# Altium footprint library charger.PcbLib: 22 footprints (part 1 of 2)
Each footprint in its own frame and in the unit in brackets; x right, y up, seen from the top. Pads: shape width x height; smd on the part's side, far side on the other; paste and mask are expansions set on the pad; w line width, h text height; cw(c..) or ccw(c..) is an arc to the next point about the centre after c.
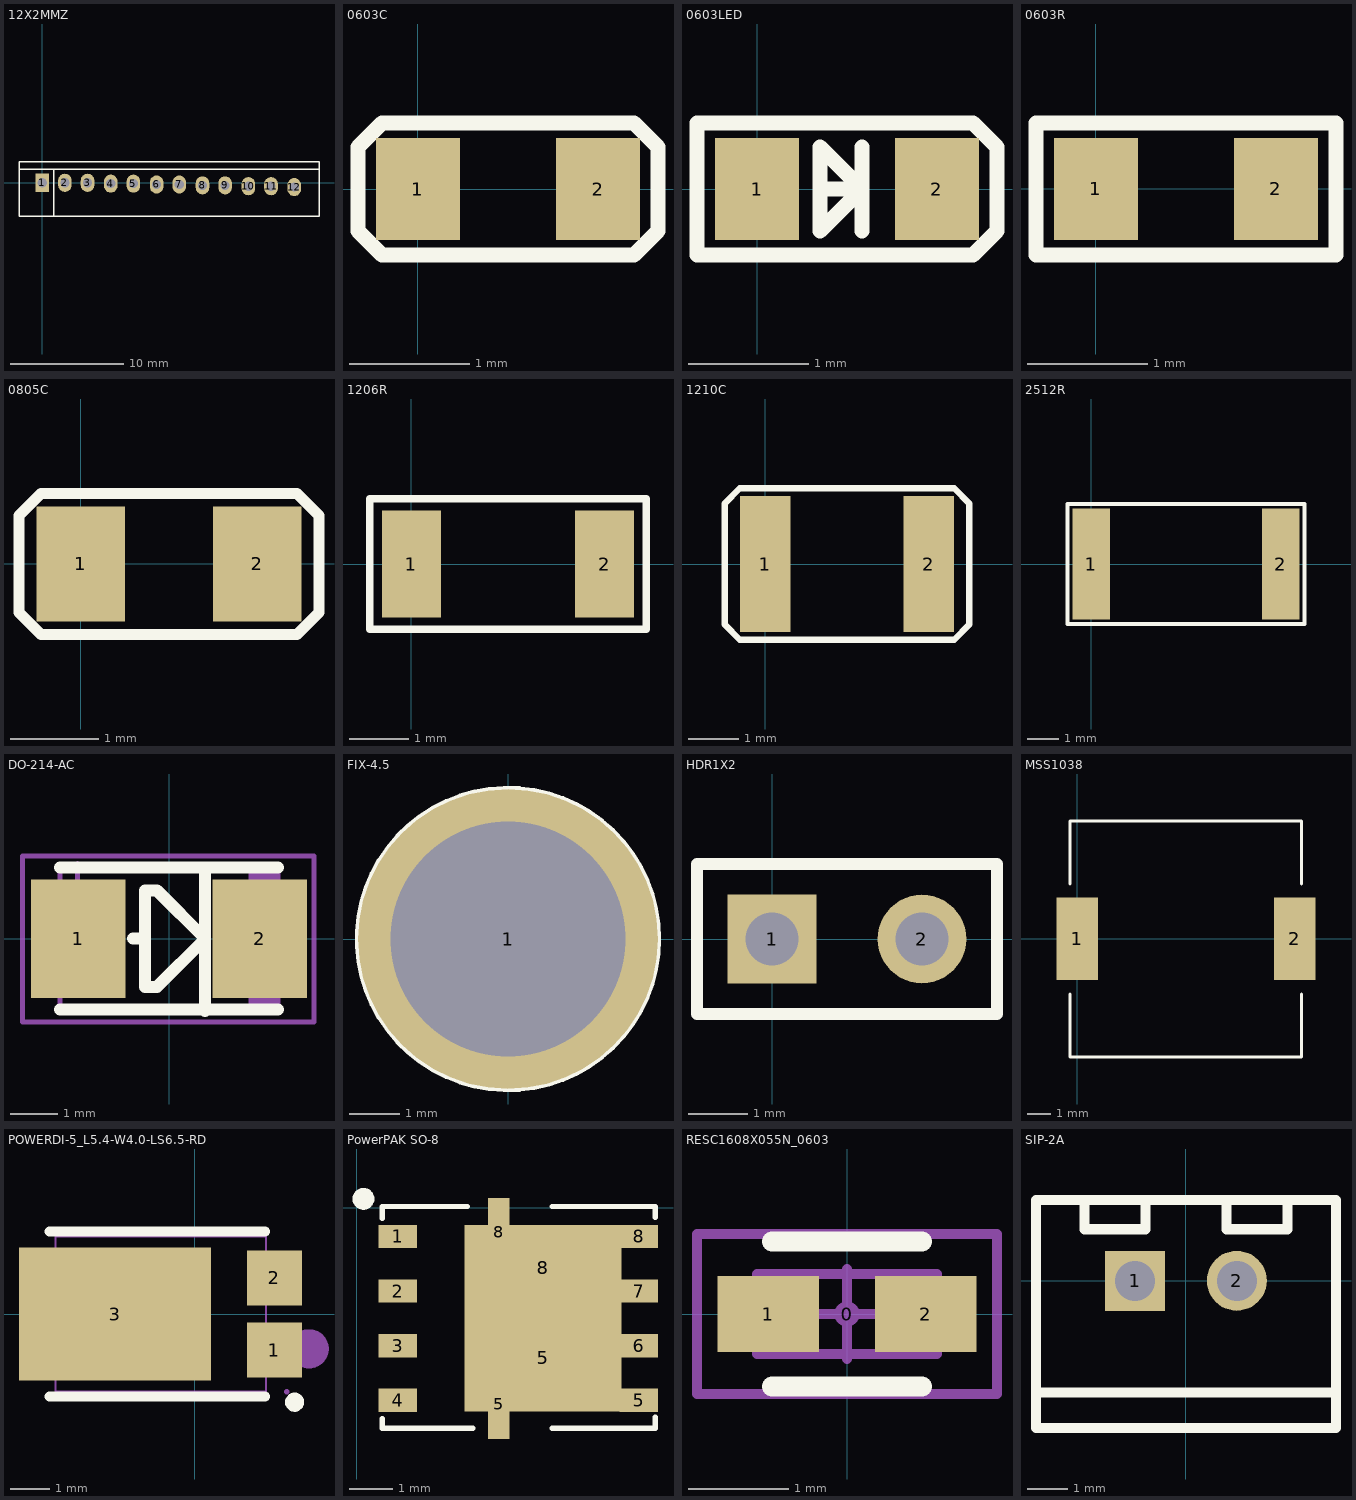
[diagram p0: the footprints below, top view; thin cyan lines are the x and y axes]

## 12X2MMZ [mm]
pads (12):
  rect 1.2x1.6 hole 0.8: 1(0,0)
  oval 1.2x1.6 hole 0.8: 2(2,0) 3(4,0) 4(6.05,-0.076) 5(8.05,-0.076) 6(10.1,-0.152) 7(12.1,-0.152) 8(14.15,-0.229) 9(16.15,-0.229) 10(18.2,-0.305) 11(20.2,-0.305) 12(22.25,-0.381)
Top Overlay:
  lines w0.127: -2.05,1.2 24.435,1.2 ; 1,-2.95 1,1.2 ; -2.05,-2.95 24.435,-2.95 24.435,1.85 -2.05,1.85 -2.05,-2.95

## 0603C [mm]
pads (2):
  rect 0.7x0.85 smd: 1(0,0) 2(1.5,0)
Top Overlay:
  lines w0.127: -0.5,-0.35 -0.5,0.35 -0.3,0.55 1.8,0.55 2,0.35 2,-0.35 1.8,-0.55 -0.3,-0.55 -0.5,-0.35

## 0603LED [mm]
pads (2):
  rect 0.7x0.85 smd: 1(0,0) 2(1.5,0)
Top Overlay:
  lines w0.127: 0.525,0 0.875,0 ; 0.875,-0.35 0.875,0.35 ; 0.875,0 0.525,0.35 0.525,-0.35 0.875,0 ; -0.5,-0.55 -0.5,0.55 1.8,0.55 2,0.35 2,-0.35 1.8,-0.55 -0.5,-0.55

## 0603R [mm]
pads (2):
  rect 0.7x0.85 smd: 1(0,0) 2(1.5,0)
Top Overlay:
  lines w0.127: -0.5,-0.55 2,-0.55 2,0.55 -0.5,0.55 -0.5,-0.55

## 0805C [mm]
pads (2):
  rect 1x1.3 smd: 1(0,0) 2(2,0)
Top Overlay:
  lines w0.127: 2.45,-0.8 2.7,-0.55 2.7,0.55 2.45,0.8 -0.45,0.8 -0.7,0.55 -0.7,-0.55 -0.45,-0.8 2.45,-0.8 ; 2.45,-0.8 2.45,-0.8

## 1206R [mm]
pads (2):
  rect 1x1.8 smd: 1(0,0) 2(3.25,0)
Top Overlay:
  lines w0.127: -0.7,-1.1 3.95,-1.1 3.95,1.1 -0.7,1.1 -0.7,-1.1

## 1210C [mm]
pads (2):
  rect 1x2.7 smd: 1(0,0) 2(3.25,0)
Top Overlay:
  lines w0.127: -0.8,-1.2 -0.5,-1.5 3.75,-1.5 4.05,-1.2 4.05,1.2 3.75,1.5 -0.5,1.5 -0.8,1.2 -0.8,-1.2

## 2512R [mm]
pads (2):
  rect 1.2x3.5 smd: 1(0,0) 2(6,0)
Top Overlay:
  lines w0.127: -0.75,-1.9 6.75,-1.9 6.75,1.9 -0.75,1.9 -0.75,-1.9

## DO-214-AC [mm]
pads (2):
  rect 2x2.5 smd: 1(-1.915,0) 2(1.915,0)
Top Overlay:
  lines w0.254: -2.3,-1.5 2.3,-1.5 ; -2.3,1.5 2.3,1.5 ; -0.762,0 -0.508,0 ; 0.762,-1.524 0.762,1.473 ; -0.508,-1.016 -0.508,1.016 -0.254,1.016 0.762,0 -0.254,-1.016 -0.508,-1.016
Mechanical 13:
  rectangle: 1.681,-1.475 2.3,1.475
  lines w0.1: -2.3,-1.475 2.3,-1.475 2.3,1.475 -2.3,1.475 -2.3,-1.475
Mechanical 15:
  lines w0.1: -2.43,1.092 -1.43,1.092 ; -1.93,0.592 -1.93,1.592 ; -3.09,-1.758 -3.09,1.742 3.06,1.742 3.06,-1.758 -3.09,-1.758
3D body "DO-214AC.STEP": height 2.4, standoff 0, extent -2.3,-1.35 2.3,1.35

## FIX-4.5 [mm]
pads (1):
  round 6 hole 4.7: 1(0,0)
Top Overlay:
  circle w0.127: c0,0 r3

## HDR1X2 [mm] "Connector; Header; 2 Position"
pads (2):
  rect 1.5x1.5 hole 0.9: 1(0,0)
  round 1.5 hole 0.9: 2(2.54,0)
Top Overlay:
  lines w0.2: -1.27,-1.27 3.81,-1.27 3.81,1.27 -1.27,1.27 -1.27,-1.27

## MSS1038 [mm]
pads (2):
  rect 1.78x3.56 smd: 1(0,0) 2(9.4,0)
Top Overlay:
  lines w0.127: -0.305,-2.373 -0.305,-5.105 9.695,-5.105 9.695,-2.373 ; -0.305,2.362 -0.305,5.095 9.695,5.095 9.695,2.362

## POWERDI-5_L5.4-W4.0-LS6.5-RD [mm]
pads (3):
  rect 1.4x1.4 smd: 1(2.032,-0.92) 2(2.032,0.92)
  rect 4.9x3.4 smd: 3(-2.032,0)
Top Overlay:
  circle w0.254: c2.55,-2.25 r0.117
  lines w0.254: -3.7,-2.1 1.8,-2.1 ; -3.7,2.1 1.8,2.1
Mechanical 6:
  circle w0.5: c2.921,-0.889 r0.25
Mechanical 15:
  region: 2.35,-0.47 2.35,-1.37 1.55,-1.37 1.55,-0.47
  region: 2.35,1.37 2.35,0.47 1.55,0.47 1.55,1.37
  region: 0.345,1.53 0.345,-1.524 -3.4,-1.524 -3.4,-0.9 -4.15,-0.9 -4.15,0.9 -3.4,0.9 -3.4,1.53
  region: 2.41,-1.983 2.41,-1.958 2.375,-1.923 2.325,-1.923 2.29,-1.958 2.29,-1.983 2.29,-2.008 2.325,-2.043 2.375,-2.043 2.41,-2.008 2.41,-1.983
  lines w0.051: -3.554,-1.983 -3.554,1.983 1.816,1.983 1.816,-1.983 -3.554,-1.983

## PowerPAK SO-8 [mm]
pads (12):
  rect 0.9x0.54 smd: 1(0.95,-0.67) 2(0.95,-1.94) 3(0.95,-3.21) 4(0.95,-4.48) 5(6.548,-4.48) 6(6.548,-3.21) 7(6.548,-1.94) 8(6.548,-0.67)
  rect 0.5x1.6 smd: 5(3.3,-4.575) 8(3.3,-0.575)
  rect 3.66x2.5 smd: 5(4.325,-3.495)
  rect 3.66x2 smd: 8(4.325,-1.401)
Top Overlay:
  circle w0.254: c0.152,0.203 r0.127
  lines w0.127: 0.584,-4.902 0.584,-5.125 2.692,-5.125 ; 0.584,-0.254 0.584,0.025 2.565,0.025 ; 4.534,-5.125 6.934,-5.125 6.934,-4.877 ; 4.534,0.025 6.934,0.025 6.934,-0.229

## RESC1608X055N_0603 [mil] "Chip Resistor, 0603"
height 21.65
pads (3):
  round 10 on Mech3: 0(0,0)
  rect 40x30 smd: 1(-30.98,0) 2(30.98,0)
Top Overlay:
  lines w7.87: -29.53,-28.54 29.53,-28.54 ; -29.53,28.54 29.53,28.54
Mechanical 10:
  lines w3.94: -35.43,-15.75 35.43,-15.75 35.43,15.75 -35.43,15.75 -35.43,-15.75
  text ".Designator" at -25.59,-7.87 h15.75
Mechanical 12:
  lines w3.94: -31.49,-15.74 31.5,-15.74 31.5,15.75 -31.49,15.75 -31.49,-15.74
Mechanical 14:
  lines w3.94: -17.72,0 17.72,0 ; 0,-17.72 0,17.72 ; -59.06,-31.5 59.06,-31.5 59.06,31.5 -59.06,31.5 -59.06,-31.5
3D body "RESC1608X55N EIA 0603.step": height 21.65, standoff 0, extent -31.5,-15.75 31.5,15.75

## SIP-2A [mm]
height 2.65
pads (2):
  rect 1.5x1.5 hole 1: 1(-1.27,0)
  round 1.5 hole 1: 2(1.27,0)
Top Overlay:
  lines w0.254: -3.75,-3.681 -3.75,2.019 3.75,2.019 3.75,-3.681 -3.7,-3.681 ; -3.75,-2.794 3.75,-2.794 ; -2.54,1.924 -2.54,1.289 -1.016,1.289 -1.016,1.924 ; 1.016,1.924 1.016,1.289 2.54,1.289 2.54,1.924
3D body "CH2.54-2.STEP": height 7.5, standoff -2.9, extent -3.7,-3.814 3.7,2.286